# EAGLE library part BTBREAKOUT (library MrSwirlyEyes)
Used For the 6 pin BT Board
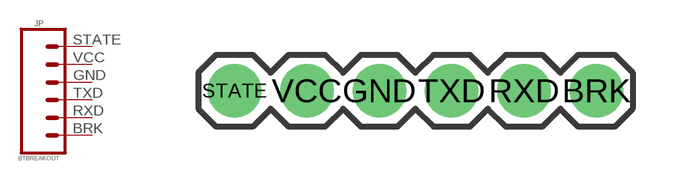
[diagram p11: symbol with the pads of BT_6PIN; footprint BT_6PIN]

Designator prefix JP

## BTBREAKOUT (DATASHEET: http://www.sullinscorp.com/drawings/78_P(N)PxCxxxLFBN-RC,_10492-H.pdf; DIST: Digikey; DISTLINK: https://www.digikey.com/products/en?keywords=PPTC061LFBN-RC; DISTPN: S7004-ND; MFR: Sullins Connector Solutions; MPN: PPTC061LFBN-RC)  [BT_6PIN]
BRK  6  pas
GND  3  pas
RXD  5  pas
STATE  1  pas
TXD  4  pas
VCC  2  pas

## Footprint BT_6PIN (pad centres in mm)
drill 1.016 pad 1.88: BRK 12.7,0; GND 5.08,0; RXD 10.16,0; STATE 0,0; TXD 7.62,0; VCC 2.54,0